# EAGLE library part CON-FPC-35- (library CON-FFC)
12 Position FPC Connector Contacts, Bottom 0.020" (0.50mm) Surface Mount, Right Angle Datasheet <http://www.te.com/commerce/DocumentDelivery/DDEController?Action=srchrtrv&DocNm=1734592&DocType=Customer+Drawing&DocLang=English>
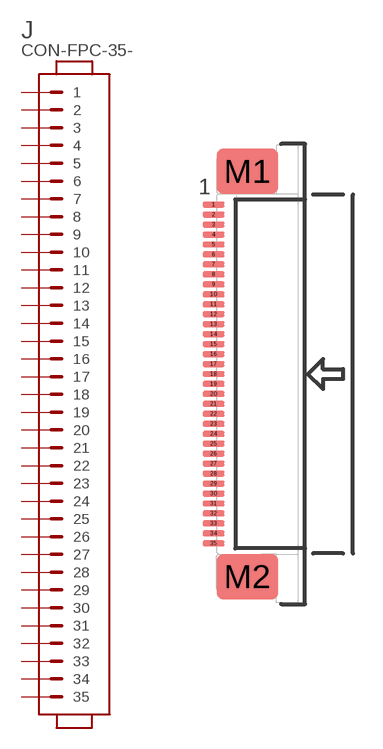
[diagram p4: symbol with the pads of FPC-35-0.5MM-TOP-RA; footprint FPC-35-0.5MM-TOP-RA]

Designator prefix J

## CON-FPC-35-0.5MM-TOP-RA (CONTACT: TOP; DATASHEET: https://goo.gl/FfnA14; DESC: CONN FPC TOP 35POS 0.50MM R/A; FEAT: Slide Lock ZIF; MANF: TE Connectivity AMP Connectors; MFPN: 3-1734839-5; PARTNO: 29-100906-00; PITCH: 0.5mm; RATE: 0.5A; STATUS: Active; TYPE: FPC, SurfaceMount, Right Angle)  [FPC-35-0.5MM-TOP-RA]
1  1  pas
2  2  pas
3  3  pas
4  4  pas
5  5  pas
6  6  pas
7  7  pas
8  8  pas
9  9  pas
10  10  pas
11  11  pas
12  12  pas
13  13  pas
14  14  pas
15  15  pas
16  16  pas
17  17  pas
18  18  pas
19  19  pas
20  20  pas
21  21  pas
22  22  pas
23  23  pas
24  24  pas
25  25  pas
26  26  pas
27  27  pas
28  28  pas
29  29  pas
30  30  pas
31  31  pas
32  32  pas
33  33  pas
34  34  pas
35  35  pas

## Footprint FPC-35-0.5MM-TOP-RA (pad centres in mm)
CONN FPC TOP 35POS 0.50MM R/A 35 Position FPC Connector Contacts, Top 0.020" (0.50mm) Surface Mount, Right Angle Drawing <http://www.te.com/commerce/DocumentDelivery/DDEController?Action=srchrtrv&DocNm=1734839&DocType=Customer+Drawing&DocLang=English>
smd 1.1 x 0.3: 1 0,8.5; 2 0,8; 3 0,7.5; 4 0,7; 5 0,6.5; 6 0,6; 7 0,5.5; 8 0,5; 9 0,4.5; 10 0,4; 11 0,3.5; 12 0,3; 13 0,2.5; 14 0,2; 15 0,1.5; 16 0,1; 17 0,0.5; 18 0,0; 19 0,-0.5; 20 0,-1; 21 0,-1.5; 22 0,-2; 23 0,-2.5; 24 0,-3; 25 0,-3.5; 26 0,-4; 27 0,-4.5; 28 0,-5; 29 0,-5.5; 30 0,-6; 31 0,-6.5; 32 0,-7; 33 0,-7.5; 34 0,-8; 35 0,-8.5
smd 3.1 x 2.3: M1 1.7,10.17; M2 1.7,-10.17